# Altium footprint library Components.PcbLib: 163 footprints (part 11 of 11)
Each footprint in its own frame and in the unit in brackets; x right, y up, seen from the top. Pads: shape width x height; smd on the part's side, far side on the other; paste and mask are expansions set on the pad; w line width, h text height; cw(c..) or ccw(c..) is an arc to the next point about the centre after c.
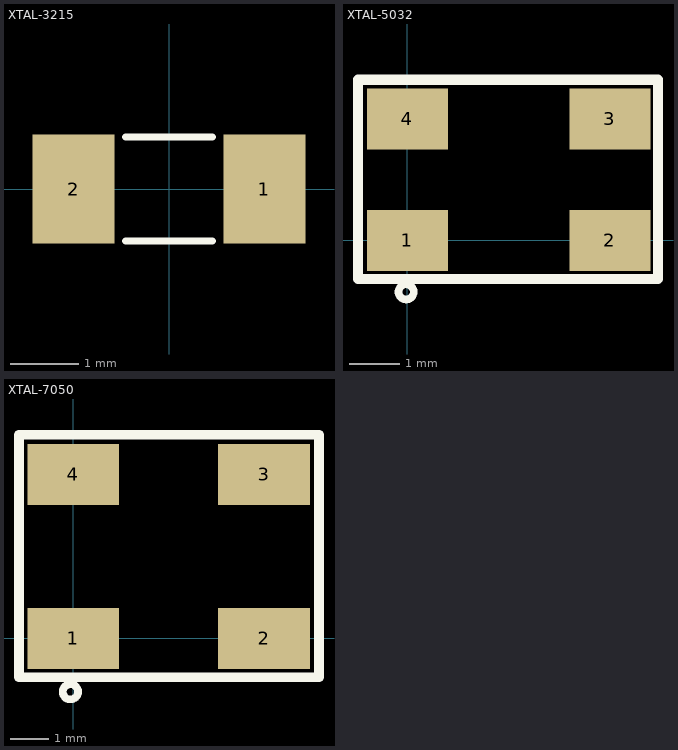
[diagram p10: the footprints below, top view; thin cyan lines are the x and y axes]

## XTAL-3215 [mm] "SMD 2 pin 32*15"
pads (2):
  rect 1.2x1.6 smd: 1(1.4,0) 2(-1.4,0)
Top Overlay:
  lines w0.102: -0.635,-0.762 0.635,-0.762 ; -0.635,0.762 0.635,0.762

## XTAL-5032 [mm] "SMD 4 pin 50*32"
pads (4):
  rect 1.6x1.2 smd: 1(0,0) 2(4,0) 3(4,2.4) 4(0,2.4)
Top Overlay:
  circle w0.15: c-0.023,-1.016 r0.15
  lines w0.2: -0.973,-0.762 4.953,-0.762 4.953,3.175 -0.973,3.175 -0.973,-0.762

## XTAL-7050 [mm]
pads (4):
  rect 2.4x1.6 smd: 1(0,0) 2(5,0) 3(5,4.3) 4(0,4.3)
Top Overlay:
  circle w0.2: c-0.073,-1.397 r0.2
  lines w0.254: -1.42,-1.016 -1.42,5.334 ; -1.4,-1.016 6.44,-1.016 6.44,5.334 -1.4,5.334